# Altium footprint library Amphenol MicroUSB.PcbLib: 1 footprints
Each footprint in its own frame and in the unit in brackets; x right, y up, seen from the top. Pads: shape width x height; smd on the part's side, far side on the other; paste and mask are expansions set on the pad; w line width, h text height; cw(c..) or ccw(c..) is an arc to the next point about the centre after c.
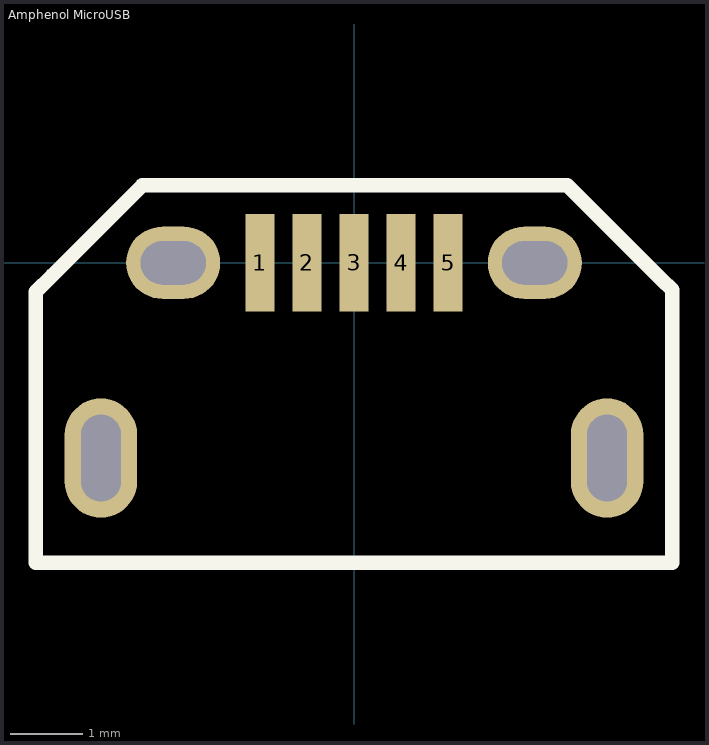
[diagram p0: the footprint, top view; thin cyan lines are the x and y axes]

## Amphenol MicroUSB [mm] "10118194-0001LF"
pads (9):
  rect 0.4x1.35 smd mask+0.08: 1(-1.3,0) 2(-0.65,0) 3(0,0) 4(0.65,0) 5(1.3,0)
  oval 1x1.65 hole 0.55 slot 1.2 at 90 deg: ""(-3.5,-2.7) ""(3.5,-2.7)
  oval 1.3x1 hole 0.6 slot 0.9 at 0 deg: ""(-2.5,0) ""(2.5,0)
Top Overlay:
  lines w0.2: -4.4,-4.15 4.4,-4.15 4.4,-3.925 4.4,-3 4.4,-0.375 4.25,-0.225 2.95,1.075 -2.925,1.075 -4.175,-0.175 -4.4,-0.4 -4.4,-2.9 -4.4,-3.925 -4.4,-4.15
3D body: height 2.4, standoff 0, extent -4.064,-5.207 4.064,0.508